# Altium footprint library Header.PcbLib: 7 footprints
Each footprint in its own frame and in the unit in brackets; x right, y up, seen from the top. Pads: shape width x height; smd on the part's side, far side on the other; paste and mask are expansions set on the pad; w line width, h text height; cw(c..) or ccw(c..) is an arc to the next point about the centre after c.
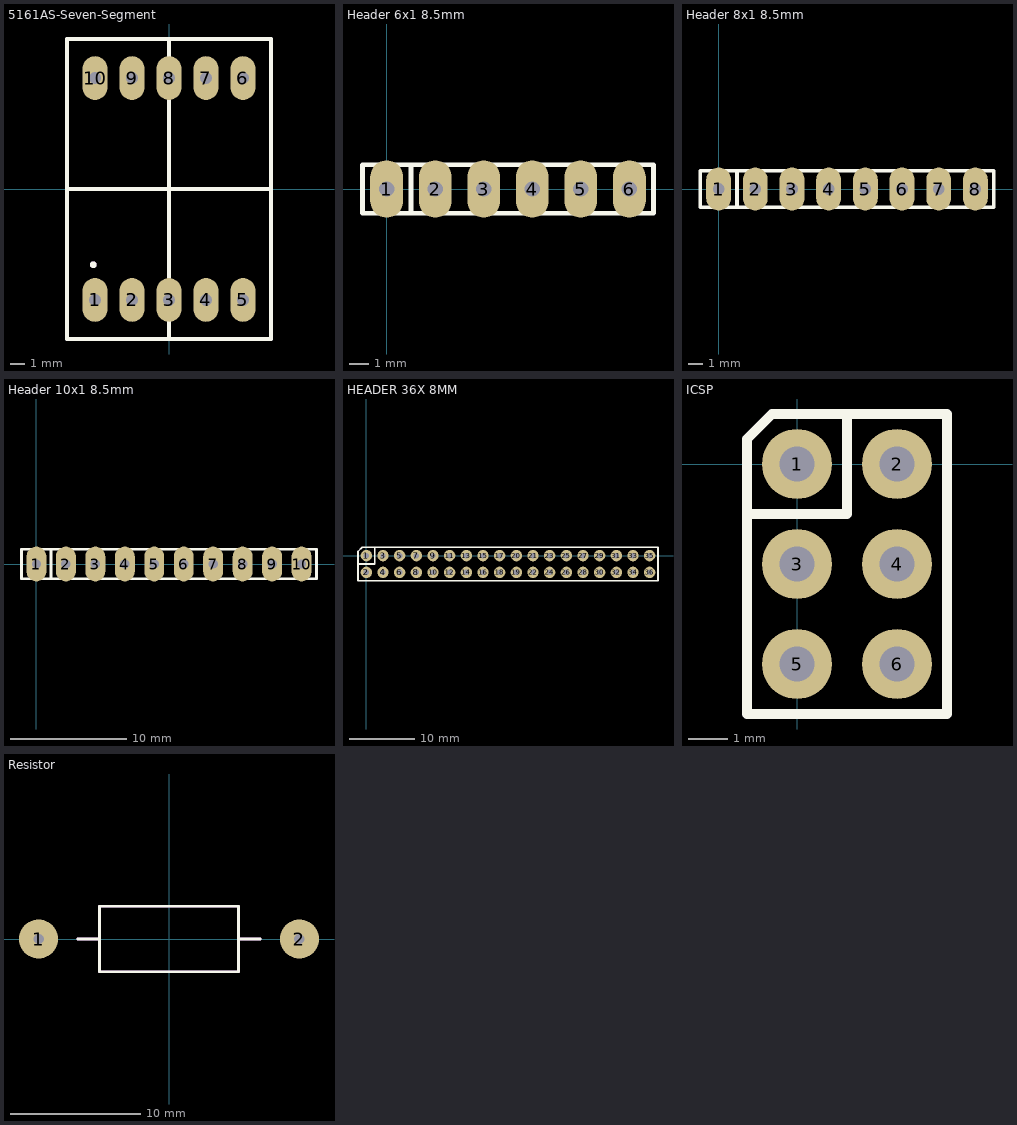
[diagram p0: the footprints below, top view; thin cyan lines are the x and y axes]

## 5161AS-Seven-Segment [mm]
pads (10):
  oval 1.72x3 hole 0.8: 1(-5.08,-7.62) 2(-2.54,-7.62) 3(0,-7.62) 4(2.54,-7.62) 5(5.08,-7.62) 6(5.08,7.62) 7(2.54,7.62) 8(0,7.62) 9(-2.54,7.62) 10(-5.08,7.62)
Top Overlay:
  circle w0.254: c-5.2,-5.2 r0.1
  lines w0.254: -7,0 7,0 ; 0,-10.3 0,10.3 ; -7,-10.3 7,-10.3 7,10.3 -7,10.3 -7,-10.3
Mechanical 29:
  circle w0.254: c-5.2,-5.2 r0.1
  lines w0.254: -7,0 7,0 ; 0,-10.3 0,10.3 ; -7,-10.3 -7,10.3 7,10.3 7,-10.3 -7,-10.3
3D body "User Library-User Library-7-Segment.step": height 8, standoff -6.3, extent -6.3,-9.5 6.3,9.5

## Header 6x1 8.5mm [mm] "Stackable 6 pin header"
pads (6):
  oval 1.72x3 hole 0.8: 1(0,0) 2(2.54,0) 3(5.08,0) 4(7.62,0) 5(10.16,0) 6(12.7,0)
Top Overlay:
  lines w0.254: 1.27,-1.27 -1.27,-1.27 -1.27,0 -1.27,1.27 1.27,1.27 ; 1.27,-1.27 1.27,1.27 ; 1.27,-1.27 13.97,-1.27 13.97,1.27 1.27,1.27
3D body "SIL_Socket06.stp": height 8.5, standoff -14.85, extent -1.27,-1.27 13.97,1.27

## Header 8x1 8.5mm [mm] "Stackable 8 pin header"
pads (8):
  oval 1.72x3 hole 0.8: 1(0,0) 2(2.54,0) 3(5.08,0) 4(7.62,0) 5(10.16,0) 6(12.7,0) 7(15.24,0) 8(17.78,0)
Top Overlay:
  lines w0.254: 1.27,-1.27 1.27,1.27 ; -1.27,-1.27 19.05,-1.27 19.05,1.27 -1.27,1.27 -1.27,-1.27
3D body "SIL_Socket08_.stp": height 8.5, standoff -14.85, extent -1.27,-1.27 19.05,1.27

## Header 10x1 8.5mm [mm] "Stackable 10 pin header"
pads (10):
  oval 1.72x3 hole 0.8: 1(0,0) 2(2.54,0) 3(5.08,0) 4(7.62,0) 5(10.16,0) 6(12.7,0) 7(15.24,0) 8(17.78,0) 9(20.32,0) 10(22.86,0)
Top Overlay:
  lines w0.254: 1.27,-1.27 1.27,1.27 ; 1.27,-1.27 24.13,-1.27 24.13,1.27 1.27,1.27 ; 1.27,-1.27 -1.27,-1.27 -1.27,1.27 1.27,1.27
3D body "SIL_Socket10.stp": height 8.5, standoff -14.85, extent -1.27,-1.27 24.13,1.27

## HEADER 36X 8MM [mm] "Stackable 10 pin header"
pads (36):
  round 1.72 hole 0.8: 1(0,0) 2(0,-2.54) 3(2.54,0) 4(2.54,-2.54) 5(5.08,0) 6(5.08,-2.54) 7(7.62,0) 8(7.62,-2.54) 9(10.16,0) 10(10.16,-2.54) 11(12.7,0) 12(12.7,-2.54) 13(15.24,0) 14(15.24,-2.54) 15(17.78,0) 16(17.78,-2.54) 17(20.32,0) 18(20.32,-2.54) 19(22.86,-2.54) 20(22.86,0) 21(25.4,0) 22(25.4,-2.54) 23(27.94,0) 24(27.94,-2.54) 25(30.48,0) 26(30.48,-2.54) 27(33.02,0) 28(33.02,-2.54) 29(35.56,0) 30(35.56,-2.54) 31(38.1,0) 32(38.1,-2.54) 33(40.64,0) 34(40.64,-2.54) 35(43.18,0) 36(43.18,-2.54)
Top Overlay:
  lines w0.254: -1.27,-1.27 1.27,-1.27 1.27,1.27 ; -1.27,-3.81 -1.27,0.635 -0.635,1.27 44.45,1.27 44.45,-3.81 -1.27,-3.81
3D body "SIL_Socket36.stp": height 8.5, standoff -14.85, extent -1.27,-3.81 44.45,1.27

## ICSP [mil]
pads (6):
  round 70 hole 35.43: 1(0,0) 2(100,0) 3(0,-100) 4(100,-100) 5(0,-200) 6(100,-200)
Top Overlay:
  lines w10: -50,-50 50,-50 50,50 ; -50,-250 -50,25 -25,50 150,50 150,-250 -50,-250
3D body "ICSP.stp": height 484.65, standoff -105.84, extent -49.99,-249.99 150.01,50.01

## Resistor [mm]
pads (2):
  round 3 hole 0.8: 1(-10,0) 2(10,0)
Top Overlay:
  lines w0.2: -7,0 -5.325,0 ; 5.325,0 7,0 ; -5.325,0 -5.325,2.5 5.325,2.5 5.325,-2.5 -5.325,-2.5 -5.325,0
Mechanical 29:
  lines w0.2: -7,0 -5.325,0 ; 5.325,0 7,0 ; -5.325,0 -5.325,-2.5 5.325,-2.5 5.325,2.5 -5.325,2.5 -5.325,0
  text "'.Designator'" at 0,0 h0.7